# Altium schematic symbol library NX3DV42GU_115.SchLib: 1 symbol
Pins are listed as number, name and electrical type; pins without a type are passive.

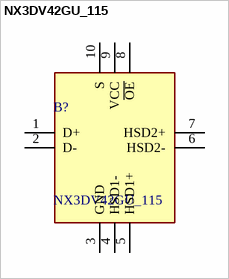
[diagram p0: symbol NX3DV42GU_115]

## NX3DV42GU_115
designator B?
USB Switch ICs NX3DV42GU/XQFN10///REEL 7 Q1/T1 *STANDARD MARK SM; Manufacturer_Name: NXP; Manufacturer_Part_Number: NX3DV42GU,115; Geometry.Height: 0.5mm; Mouser Part Number: 771-NX3DV42GU115; Mouser Price/Stock: https://www.mouser.co.uk/ProductDetail/NXP-Semiconductors/NX3DV42GU115?qs=cbprxTG2Yq%252BinzuyAklGVQ%3D%3D; Datasheet Link: http://www.nxp.com/docs/en/data-sheet/NX3DV42.pdf
footprint QFN40P140X180X50-10N
pins: 1 D+, 2 D-, 3 GND, 4 HSD1-, 5 HSD1+, 6 HSD2-, 7 HSD2+, 8 ~{OE}, 9 VCC, 10 S